# EAGLE library part TPS54286 (library ti)
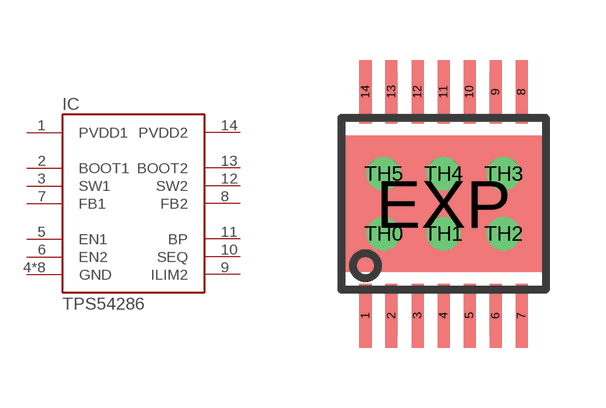
[diagram p0: symbol with the pads of HTSSOP14; footprint HTSSOP14]

Designator prefix IC

## TPS54286  [HTSSOP14]
1  PVDD1  pwr
2  BOOT1  pas
3  SW1  sup
4  GND  pas
5  EN1
6  EN2
7  FB1  pas
8  FB2  pas
9  ILIM2  pas
10  SEQ  pas
11  BP  pas
12  SW2  sup
13  BOOT2  pas
14  PVDD2  pwr
EXP  GND  pas
TH0  GND  pas
TH1  GND  pas
TH2  GND  pas
TH3  GND  pas
TH4  GND  pas
TH5  GND  pas

## Footprint HTSSOP14 (pad centres in mm)
smd 0.3 x 1.6: 1 -1.95,-2.8; 2 -1.3,-2.8; 3 -0.65,-2.8; 4 0,-2.8; 5 0.65,-2.8; 6 1.3,-2.8; 7 1.95,-2.8; 8 1.95,2.8; 9 1.3,2.8; 10 0.65,2.8; 11 0,2.8; 12 -0.65,2.8; 13 -1.3,2.8; 14 -1.95,2.8
smd 5 x 3.4: EXP 0,0
drill 0.33: TH0 -1.5,-0.75; TH1 0,-0.75; TH2 1.5,-0.75; TH3 1.5,0.75; TH4 0,0.75; TH5 -1.5,0.75